# Altium footprint library STM32F103Mini.PcbLib: 19 footprints (part 1 of 2)
Each footprint in its own frame and in the unit in brackets; x right, y up, seen from the top. Pads: shape width x height; smd on the part's side, far side on the other; paste and mask are expansions set on the pad; w line width, h text height; cw(c..) or ccw(c..) is an arc to the next point about the centre after c.
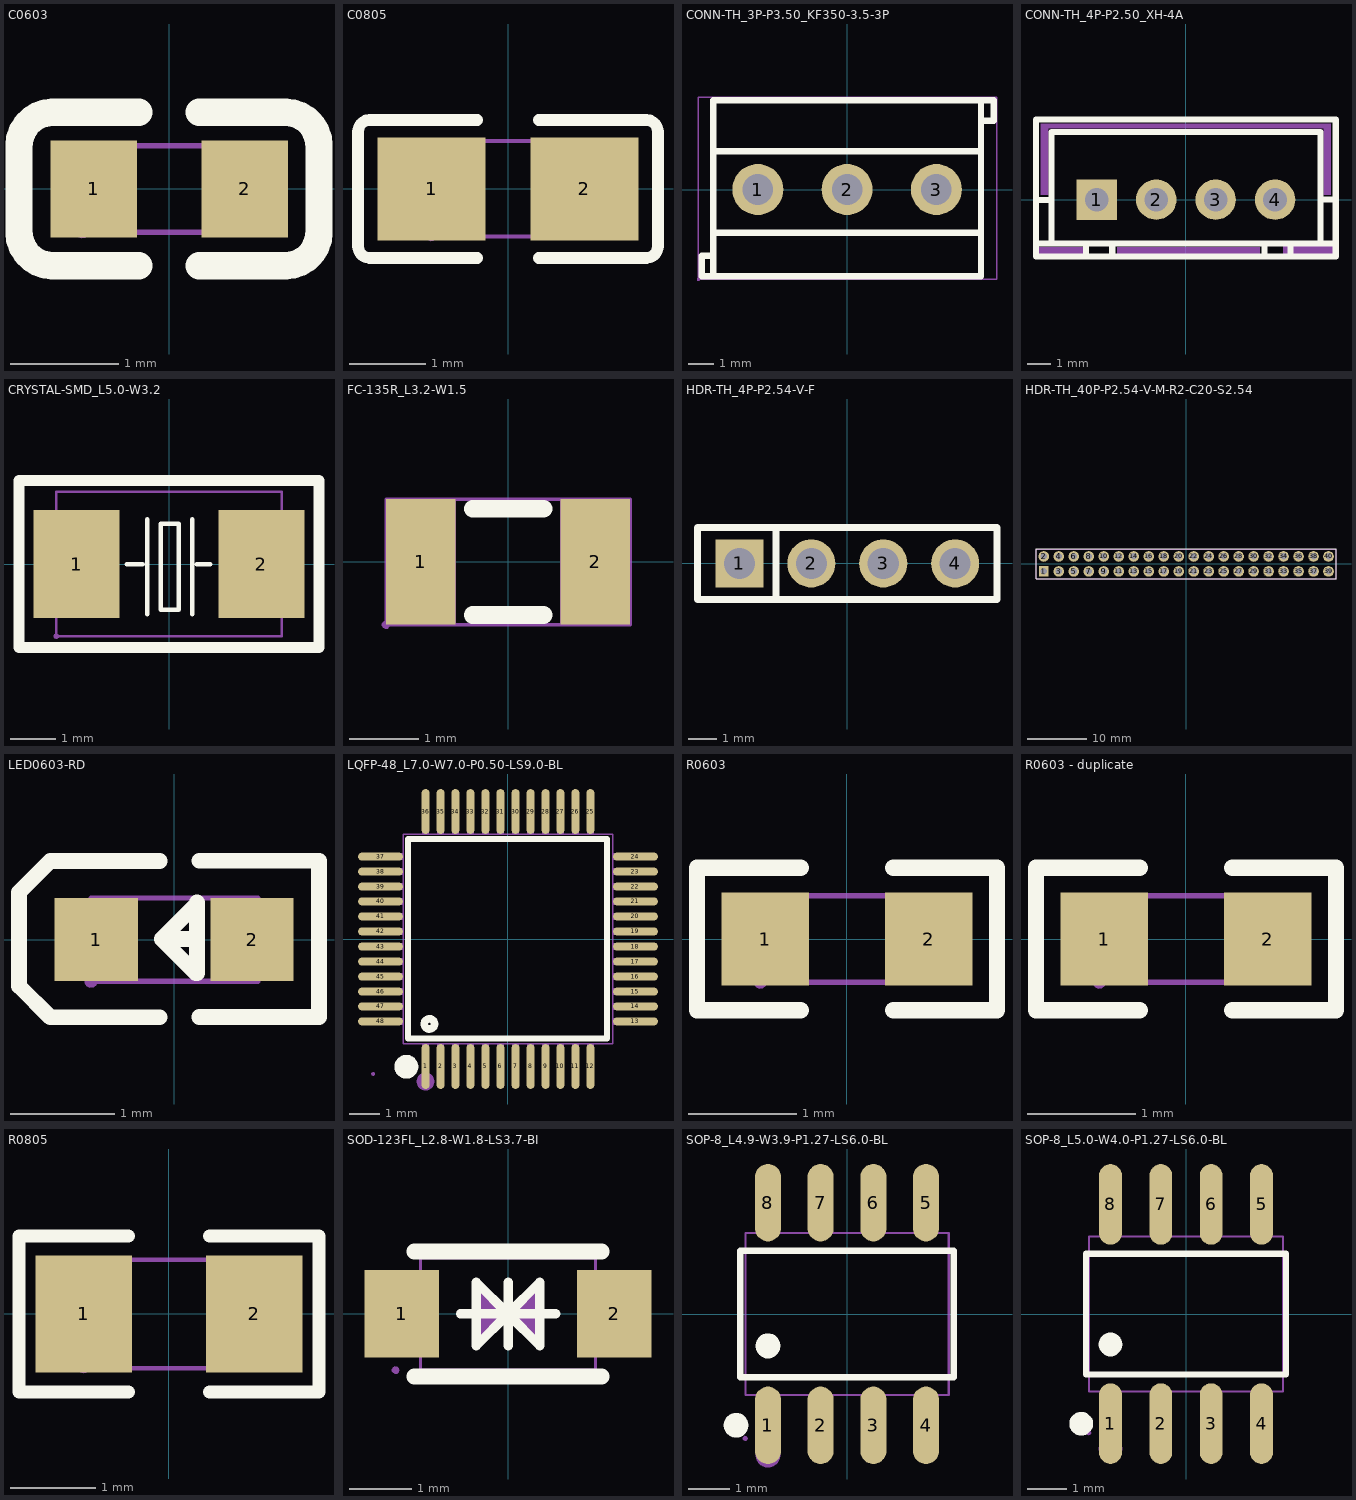
[diagram p0: the footprints below, top view; thin cyan lines are the x and y axes]

## C0603 [mil]
pads (2):
  rect 31.5x35.4 smd: 1(-27.5,0) 2(27.6,0)
Top Overlay:
  lines w10: -11,-28 -42.5,-28 -45.2,-27.7 -47.8,-26.8 -50.1,-25.3 -52,-23.4 -53.5,-21.1 -54.4,-18.5 -54.7,-15.8 -54.7,15.7 -54.4,18.4 -53.5,21 -52,23.3 -50.1,25.2 -47.8,26.7 -45.2,27.6 -42.5,27.9 -11,27.9 ; 11.1,-28 42.6,-28 ; 11.1,27.9 42.6,27.9 ; 42.5,-28 45.3,-27.7 47.8,-26.8 50.2,-25.3 52.1,-23.4 53.5,-21.1 54.4,-18.5 54.7,-15.8 54.7,15.7 54.4,18.4 53.5,21 52.1,23.3 50.2,25.2 47.8,26.7 45.3,27.6 42.5,27.9
Mechanical 6:
  lines w2: -31.5,-15.8 31.5,-15.8 31.5,15.7 -31.5,15.7 -31.5,-15.8
Mechanical 8:
  region: -29.1,-15.8 -29.5,-17.1 -30.5,-17.9 -31.8,-18.1 -33,-17.6 -33.7,-16.5 -33.7,-15.1 -33,-14 -31.8,-13.5 -30.5,-13.6 -29.5,-14.5
Mechanical 9:
  region: 31.5,-15.8 31.5,15.7 19.7,15.7 19.7,-15.8
  region: -31.5,-15.8 -31.5,15.7 -19.7,15.7 -19.7,-15.8

## C0805 [mil]
pads (2):
  rect 55.5x53.1 smd paste-3937 mask+2: 1(-39.4,0) 2(39.4,0)
Top Overlay:
  lines w6: -15.8,-35.6 -71.3,-35.6 -73.2,-35.3 -74.8,-34.5 -76.2,-33.1 -77,-31.5 -77.3,-29.6 -77.3,29.5 -77,31.4 -76.2,33.1 -74.8,34.4 -73.2,35.3 -71.3,35.5 -15.8,35.5 ; 15.8,-35.6 71.3,-35.6 73.2,-35.3 74.8,-34.5 76.2,-33.1 77,-31.5 77.3,-29.6 77.3,29.5 77,31.4 76.2,33.1 74.8,34.4 73.2,35.3 71.3,35.5 15.8,35.5
Top Paste:
  region: 67.1,25.2 67.1,-25.2 65.2,-27.2 19.9,-27.2 17.9,-25.2 17.7,-9.1 35.4,-9.1 35.4,8.6 18.1,8.6 17.9,25.2 19.9,27.1 65.2,27.1
  region: -67.1,-25.2 -67.1,25.2 -65.1,27.1 -19.9,27.1 -17.9,25.2 -17.7,9 -35.4,9 -35.4,-8.7 -18.1,-8.7 -17.9,-25.2 -19.9,-27.2 -65.1,-27.2
Mechanical 6:
  lines w2: -39.4,-24.6 39.4,-24.6 39.4,24.6 -39.4,24.6 -39.4,-24.6
Mechanical 8:
  region: -37,-24.6 -37.4,-25.9 -38.4,-26.8 -39.7,-27 -40.9,-26.4 -41.6,-25.3 -41.6,-24 -40.9,-22.9 -39.7,-22.3 -38.4,-22.5 -37.4,-23.4
Mechanical 9:
  region: 39.4,24.6 39.4,-24.6 19.7,-24.6 19.7,24.6
  region: -39.4,-24.6 -39.4,24.6 -19.7,24.6 -19.7,-24.6

## CONN-TH_3P-P3.50_KF350-3.5-3P [mil]
pads (3):
  round 78.7 hole 47.2: 1(-137.8,0) 2(0,0) 3(137.8,0)
Top Overlay:
  lines w10: -206.7,-102.3 -224.4,-102.3 -224.4,-133.8 -206.7,-133.8 ; -206.7,-66.6 206.7,-66.6 ; -206.7,59.3 206.7,59.3 ; 208.6,106.3 226.4,106.3 226.4,137.8 208.6,137.8 ; -206.7,-133.8 -206.7,137.8 206.7,137.8 206.7,-133.8 -206.7,-133.8
Mechanical 6:
  lines w2: -229.4,-138.8 231.4,-138.8 231.4,142.8 -229.4,142.8 -229.4,-138.8
Mechanical 8:
  region: -227.1,-138.8 -227.5,-140.1 -228.5,-141 -229.8,-141.2 -231,-140.6 -231.7,-139.5 -231.7,-138.2 -231,-137.1 -229.8,-136.5 -228.5,-136.7 -227.5,-137.6
Mechanical 9:
  region: -118.1,0 -118.5,-3.8 -119.6,-7.5 -121.5,-10.9 -123.9,-13.9 -126.9,-16.3 -130.3,-18.2 -134,-19.3 -137.8,-19.7 -141.7,-19.3 -145.4,-18.2 -148.8,-16.3 -151.7,-13.9 -154.2,-10.9 -156,-7.5 -157.1,-3.8 -157.5,0 -157.1,3.9 -156,7.6 -154.2,11 -151.7,13.9 -148.8,16.4 -145.4,18.2 -141.7,19.3 -137.8,19.7 -134,19.3 -130.3,18.2 -126.9,16.4 -123.9,13.9 -121.5,11 -119.6,7.6 -118.5,3.9
  region: 19.7,0 19.3,-3.8 18.2,-7.5 16.3,-10.9 13.9,-13.9 10.9,-16.3 7.5,-18.2 3.8,-19.3 0,-19.7 -3.9,-19.3 -7.6,-18.2 -11,-16.3 -13.9,-13.9 -16.4,-10.9 -18.2,-7.5 -19.3,-3.8 -19.7,0 -19.3,3.9 -18.2,7.6 -16.4,11 -13.9,13.9 -11,16.4 -7.6,18.2 -3.9,19.3 0,19.7 3.8,19.3 7.5,18.2 10.9,16.4 13.9,13.9 16.3,11 18.2,7.6 19.3,3.9
  region: 157.5,0 157.1,-3.8 156,-7.5 154.1,-10.9 151.7,-13.9 148.7,-16.3 145.3,-18.2 141.6,-19.3 137.8,-19.7 133.9,-19.3 130.2,-18.2 126.8,-16.3 123.9,-13.9 121.4,-10.9 119.6,-7.5 118.5,-3.8 118.1,0 118.5,3.9 119.6,7.6 121.4,11 123.9,13.9 126.8,16.4 130.2,18.2 133.9,19.3 137.8,19.7 141.6,19.3 145.3,18.2 148.7,16.4 151.7,13.9 154.1,11 156,7.6 157.1,3.9

## CONN-TH_4P-P2.50_XH-4A [mil]
pads (4):
  rect 66.9x66.9 hole 39.4: 1(-147.6,0)
  round 66.9 hole 39.4: 2(-49.2,0) 3(49.2,0) 4(147.7,0)
Top Overlay:
  lines w10: -248,-71.5 -246.6,-72.8 -236.6,-72.8 -224.4,-72.8 ; -248,-0.3 -224.4,-0.3 ; -165.3,-94.5 -165.3,-74.8 ; -122,-94.5 -122,-74.8 ; 130,-94.5 130,-74.8 ; 173.3,-94.5 173.3,-74.8 ; 224.4,0 248.1,0 ; 224.9,-71.5 226.2,-72.8 248.5,-72.8 ; -248,-94.5 248.1,-94.5 248.1,133 -242.6,133 -248,133 -248,-94.5 ; -222.4,-72.8 -222.4,112.2 222.5,112.2 222.5,-72.8 -222.4,-72.8
Mechanical 2:
  region: 161.1,-75.4 243.8,-75.4 243.8,-91.2 161.1,-91.2
  region: -248,-78.7 -165.3,-78.7 -165.3,-94.5 -248,-94.5
  region: -114.1,-78.7 122.1,-78.7 122.1,-94.5 -114.1,-94.5
  region: -240.1,7.9 -228.3,7.9 -228.3,118.1 228.4,118.1 228.4,7.9 240.2,7.9 240.2,126 -240.1,126
Mechanical 6:
  lines w2: -246,-95.3 246.1,-95.3 246.1,133 -246,133 -246,-95.3
Mechanical 8:
  region: -243.7,-95.3 -244.1,-96.6 -245.1,-97.5 -246.4,-97.7 -247.6,-97.1 -248.3,-96 -248.3,-94.7 -247.6,-93.6 -246.4,-93 -245.1,-93.2 -244.1,-94.1
Mechanical 9:
  region: -160.2,12.6 -135,12.6 -135,-12.6 -160.2,-12.6
  region: -61.8,12.6 -36.6,12.6 -36.6,-12.6 -61.8,-12.6
  region: 36.6,12.6 61.8,12.6 61.8,-12.6 36.6,-12.6
  region: 135.1,12.6 160.3,12.6 160.3,-12.6 135.1,-12.6

## CRYSTAL-SMD_L5.0-W3.2 [mil]
pads (2):
  rect 74.8x94.5 smd: 1(-80.7,0) 2(80.7,0)
Top Overlay:
  lines w3.9: -37,0 -23,0 ; -19,-43.6 -19,39 ; 20.4,-43.6 20.4,39 ; 24.3,-0.3 36.1,-0.3 ; -7.2,-39.7 8.6,-39.7 8.6,35.1 -7.2,35.1 -7.2,-39.7
  lines w10: -130.9,-72.8 -130.9,-27.5 -130.9,27.6 -130.9,72.9 130.9,72.9 130.9,27.6 130.9,-27.5 130.9,-72.8 -130.9,-72.8
Mechanical 6:
  lines w2: -98.4,-63 98.4,-63 98.4,63 -98.4,63 -98.4,-63
Mechanical 8:
  region: -96.1,-62.9 -96.4,-64.2 -97.4,-65.1 -98.8,-65.3 -100,-64.7 -100.7,-63.6 -100.7,-62.3 -100,-61.2 -98.8,-60.6 -97.4,-60.8 -96.4,-61.7
Mechanical 9:
  region: 51.2,39.4 94.5,39.4 94.5,-39.3 51.2,-39.3
  region: -94.5,39.4 -51.2,39.4 -51.2,-39.3 -94.5,-39.3

## FC-135R_L3.2-W1.5 [mil]
pads (2):
  rect 39.4x70.9 smd: 1(-49.3,0) 2(49.2,0)
Top Overlay:
  lines w10: -20,-30 20,-30 ; -20,30 20,30
Mechanical 6:
  lines w2: -68.9,-35.4 68.9,-35.4 68.9,35.4 -68.9,35.4 -68.9,-35.4
Mechanical 8:
  region: -66.6,-35.4 -67,-36.7 -68,-37.6 -69.3,-37.8 -70.5,-37.2 -71.2,-36.1 -71.2,-34.8 -70.5,-33.7 -69.3,-33.1 -68,-33.3 -67,-34.2
Mechanical 9:
  region: -68.9,-35.4 -68.9,35.4 -29.6,35.4 -29.6,-35.4
  region: 29.5,-35.4 29.5,35.4 68.9,35.4 68.9,-35.4

## HDR-TH_4P-P2.54-V-F [mil]
pads (4):
  rect 66.9x66.9 hole 43.3: 1(-150,0)
  round 66.9 hole 43.3: 2(-50,0) 3(50,0) 4(150,0)
Top Overlay:
  lines w10: -99.1,-50 -99.1,50 ; -208.3,-50 -208.3,50 208.2,50 208.2,-50 -208.3,-50
Mechanical 6:
  lines w2: -206.7,-49.2 -206.7,49.2 206.6,49.2 206.6,-49.2 -206.7,-49.2
Mechanical 8:
  region: -204.4,-49.2 -204.8,-50.5 -205.8,-51.4 -207.1,-51.6 -208.3,-51 -209,-49.9 -209,-48.6 -208.3,-47.5 -207.1,-46.9 -205.8,-47.1 -204.8,-48
Mechanical 9:
  region: -162.6,5.9 -137.5,5.9 -137.5,-5.9 -162.6,-5.9
  region: -62.6,5.9 -37.5,5.9 -37.5,-5.9 -62.6,-5.9
  region: 37.4,5.9 62.5,5.9 62.5,-5.9 37.4,-5.9
  region: 137.4,5.9 162.5,5.9 162.5,-5.9 137.4,-5.9

## HDR-TH_40P-P2.54-V-M-R2-C20-S2.54 [mil]
pads (40):
  rect 62x70.9 hole 43.3: 1(-950,-50)
  round 70.9 hole 43.3: 2(-950,50) 3(-850,-50) 4(-850,50) 5(-750,-50) 6(-750,50) 7(-650,-50) 8(-650,50) 9(-550,-50) 10(-550,50) 11(-450,-50) 12(-450,50) 13(-350,-50) 14(-350,50) 15(-250,-50) 16(-250,50) 17(-150,-50) 18(-150,50) 19(-50,-50) 20(-50,50) 21(50,-50) 22(50,50) 23(150,-50) 24(150,50) 25(250,-50) 26(250,50) 27(350,-50) 28(350,50) 29(450,-50) 30(450,50) 31(550,-50) 32(550,50) 33(650,-50) 34(650,50) 35(750,-50) 36(750,50) 37(850,-50) 38(850,50) 39(950,-50) 40(950,50)
Top Overlay:
  lines w8: -1000,-100 1000,-100 1000,100 -1000,100 -1000,-100
Mechanical 6:
  lines w2: -1000,-98.4 -1000,98.4 1000,98.4 1000,-98.4 -1000,-98.4
Mechanical 8:
  region: -997.7,-98.4 -998.1,-99.7 -999.1,-100.6 -1000.4,-100.8 -1001.6,-100.2 -1002.3,-99.1 -1002.3,-97.8 -1001.6,-96.7 -1000.4,-96.1 -999.1,-96.3 -998.1,-97.2
Mechanical 9:
  drawing of 40 lines, arcs and shapes, not listed

## LED0603-RD [mil]
pads (2):
  rect 31.5x31.5 smd: 1(-29.4,0) 2(29.5,0)
Top Overlay:
  lines w5.9: -5.4,-29.4 -46.8,-29.4 -58.6,-17.6 -58.6,-13.6 -58.6,13.9 -58.6,17.9 -46.8,29.7 -5.4,29.7 ; 8.7,0.2 -4.7,0.2 ; 9.5,-29.3 54.8,-29.3 ; 9.5,29.8 54.8,29.8 ; 54.8,-28.5 54.8,29.7 ; -4.7,0.2 8.7,13.6 8.7,14 8.7,-12.8 8.3,-12.8 -4.7,0.2
Mechanical 2:
  region: 20.9,2.7 42.1,2.7 42.1,-2.5 20.9,-2.5
  region: 29,-10.6 29,10.7 34.1,10.7 34.1,-10.6
  region: -42.1,2.4 -20.8,2.4 -20.8,-2.7 -42.1,-2.7
Mechanical 6:
  lines w2: -31.4,-15.8 31.6,-15.8 31.6,15.7 -31.4,15.7 -31.4,-15.8
Mechanical 8:
  region: -29.1,-15.9 -29.4,-17.2 -30.4,-18.1 -31.8,-18.3 -33,-17.7 -33.7,-16.6 -33.7,-15.3 -33,-14.1 -31.8,-13.6 -30.4,-13.8 -29.4,-14.6
Mechanical 9:
  region: 19.7,-15.6 19.7,15.9 31.6,15.9 31.6,-15.6
  region: -31.4,-15.9 -31.4,15.6 -19.6,15.6 -19.6,-15.9

## LQFP-48_L7.0-W7.0-P0.50-LS9.0-BL [mil]
pads (48):
  oval 10.6x59.1 smd paste+0 mask+2: 1(-108.2,-167.3) 2(-88.5,-167.3) 3(-68.9,-167.3) 4(-49.2,-167.3) 5(-29.5,-167.3) 6(-9.8,-167.3) 7(9.9,-167.3) 8(29.6,-167.3) 9(49.3,-167.3) 10(68.9,-167.3) 11(88.6,-167.3) 12(108.3,-167.3) 25(108.3,167.4) 26(88.6,167.4) 27(68.9,167.4) 28(49.3,167.4) 29(29.6,167.4) 30(9.9,167.4) 31(-9.8,167.4) 32(-29.5,167.4) 33(-49.2,167.4) 34(-68.9,167.4) 35(-88.5,167.4) 36(-108.2,167.4)
  oval 59.1x10.6 smd paste+0 mask+2: 13(167.4,-108.2) 14(167.4,-88.5) 15(167.4,-68.9) 16(167.4,-49.2) 17(167.4,-29.5) 18(167.4,-9.8) 19(167.4,9.9) 20(167.4,29.6) 21(167.4,49.3) 22(167.4,68.9) 23(167.4,88.6) 24(167.4,108.3) 37(-167.3,108.3) 38(-167.3,88.6) 39(-167.3,68.9) 40(-167.3,49.3) 41(-167.3,29.6) 42(-167.3,9.9) 43(-167.3,-9.8) 44(-167.3,-29.5) 45(-167.3,-49.2) 46(-167.3,-68.9) 47(-167.3,-88.5) 48(-167.3,-108.2)
Top Overlay:
  lines w7.9: -114,131.5 130,131.5 130,-130.5 -131,-130.5 -131,131.5 -101,131.5
  lines w10: -109.7,-112.5 -109.7,-110.3 -109,-108.2 -107.6,-106.4 -105.8,-105.2 -103.7,-104.7 -101.5,-104.9 -99.4,-105.8 -97.8,-107.3 -96.8,-109.2 -96.4,-111.4 -96.8,-113.6 -97.8,-115.5 -99.4,-117 -101.5,-117.9 -103.7,-118.1 -105.8,-117.5 -107.6,-116.3 -109,-114.6 -109.7,-112.5
  lines w15.7: -133.4,-159.8 -135.8,-160.2 -138,-161.3 -139.8,-163.1 -140.9,-165.3 -141.2,-167.7 -140.8,-170.1 -139.7,-172.3 -138,-174 -135.8,-175.2 -133.4,-175.5 -130.9,-175.2 -128.7,-174 -127,-172.3 -125.9,-170.1 -125.5,-167.7 -125.9,-165.3 -127,-163.1 -128.7,-161.3 -130.9,-160.2 -133.3,-159.8
Mechanical 2:
  lines w11.8: -114.1,-187 -113.8,-184.9 -112.7,-183.2 -111.2,-181.8 -109.2,-181.1 -107.2,-181.1 -105.3,-181.8 -103.7,-183.2 -102.7,-184.9 -102.3,-187 -102.7,-189 -103.7,-190.8 -105.3,-192.1 -107.2,-192.8 -109.2,-192.8 -111.2,-192.1 -112.7,-190.8 -113.8,-189 -114.1,-187
Mechanical 6:
  lines w2: -137.7,-137.7 -137.7,137.8 137.8,137.8 137.8,-137.7 -137.7,-137.7
Mechanical 7:
  drawing of 48 lines, arcs and shapes, not listed
Mechanical 8:
  region: -174.8,-177.1 -175.1,-178.4 -176.1,-179.3 -177.5,-179.5 -178.7,-178.9 -179.4,-177.8 -179.4,-176.5 -178.7,-175.3 -177.5,-174.8 -176.1,-175 -175.1,-175.8
Mechanical 9:
  drawing of 48 lines, arcs and shapes, not listed

## R0603 [mil]
pads (2):
  rect 31.8x34 smd paste-3937 mask+2: 1(-29.6,0) 2(29.7,0)
Top Overlay:
  lines w6: -16.7,-26 -54.5,-26 -54.5,26 -16.7,26 ; 16.8,-26 54.6,-26 54.6,26 16.8,26
Top Paste:
  region: 47.1,17.7 15.6,17.7 13.6,15.8 13.6,6.8 28.2,6.8 28.2,-6.2 13.6,-6.2 13.6,-15.7 15.6,-17.7 47.1,-17.7 49,-15.7 49,15.8
  region: -47,-17.7 -15.5,-17.7 -13.6,-15.7 -13.6,-6.8 -28.1,-6.8 -28.1,6.2 -13.6,6.2 -13.6,15.8 -15.5,17.7 -47,17.7 -49,15.8 -49,-15.7
Mechanical 6:
  lines w2: -31.5,-15.7 -31.5,15.8 31.5,15.8 31.5,-15.7 -31.5,-15.7
Mechanical 8:
  region: -29.1,-15.7 -29.5,-17 -30.5,-17.9 -31.8,-18.1 -33,-17.5 -33.7,-16.4 -33.7,-15.1 -33,-14 -31.8,-13.4 -30.5,-13.6 -29.5,-14.5
Mechanical 9:
  region: -31.5,-15.7 -31.5,15.8 -19.7,15.8 -19.7,-15.7
  region: 31.5,-15.7 31.5,15.8 19.7,15.8 19.7,-15.7

## R0603 - duplicate [mil]
pads (2):
  rect 31.8x34 smd paste-3937 mask+2: 1(-29.6,0) 2(29.7,0)
Top Overlay:
  lines w6: -16.7,-26 -54.5,-26 -54.5,26 -16.7,26 ; 16.8,-26 54.6,-26 54.6,26 16.8,26
Top Paste:
  region: -47,-17.7 -15.5,-17.7 -13.6,-15.7 -13.6,-6.8 -28.1,-6.8 -28.1,6.2 -13.6,6.2 -13.6,15.8 -15.5,17.7 -47,17.7 -49,15.8 -49,-15.7
  region: 47.1,17.7 15.6,17.7 13.6,15.8 13.6,6.8 28.2,6.8 28.2,-6.2 13.6,-6.2 13.6,-15.7 15.6,-17.7 47.1,-17.7 49,-15.7 49,15.8
Mechanical 6:
  lines w2: -31.5,-15.7 31.5,-15.7 31.5,15.8 -31.5,15.8 -31.5,-15.7
Mechanical 8:
  region: -29.1,-15.7 -29.5,-17 -30.5,-17.9 -31.8,-18.1 -33,-17.5 -33.7,-16.4 -33.7,-15.1 -33,-14 -31.8,-13.4 -30.5,-13.6 -29.5,-14.5
Mechanical 9:
  region: 31.5,-15.7 31.5,15.8 19.7,15.8 19.7,-15.7
  region: -31.5,-15.7 -31.5,15.8 -19.7,15.8 -19.7,-15.7

## R0805 [mil]
pads (2):
  rect 44.6x54.2 smd paste-3937 mask+2: 1(-39.3,0) 2(39.4,0)
Top Overlay:
  lines w6: -18.7,-36.1 -69.3,-36.1 -69.3,36.1 -18.7,36.1 ; 18.8,-36.1 69.4,-36.1 69.4,36.1 18.8,36.1
Top Paste:
  region: 17.8,-25.2 17.8,-8.7 35.3,-8.7 35.3,9.1 18,9.1 17.8,25.2 19.7,27.2 65,27.2 67,25.2 67,-25.2 65,-27.2 19.7,-27.2
  region: -66.9,-25.2 -66.9,25.2 -64.9,27.2 -19.6,27.2 -17.7,25.2 -17.5,9.1 -35.2,9.1 -35.2,-8.7 -17.9,-8.7 -17.7,-25.2 -19.6,-27.2 -64.9,-27.2
Mechanical 6:
  lines w2: -39.3,-25.1 39.4,-25.1 39.4,25.1 -39.3,25.1 -39.3,-25.1
Mechanical 8:
  region: -37,-25.1 -37.3,-26.4 -38.4,-27.2 -39.7,-27.4 -40.9,-26.9 -41.6,-25.8 -41.6,-24.4 -40.9,-23.3 -39.7,-22.8 -38.4,-22.9 -37.3,-23.8
Mechanical 9:
  region: 39.4,-25.1 39.4,25.1 23.7,25.1 23.7,-25.1
  region: -39.3,-25.1 -39.3,25.1 -23.6,25.1 -23.6,-25.1

## SOD-123FL_L2.8-W1.8-LS3.7-BI [mil]
pads (2):
  rect 47.2x55.1 smd: 1(-67,0) 2(66.9,0)
Top Overlay:
  lines w5.9: -30,0 30,0 ; 0,-20 0,20 ; 0,-10 0,10 ; 0,0 20,20 20,-20 0,0 ; 0,0 -20,-20 -20,20 0,0
  lines w10: -59.1,-39.4 59,-39.4 ; -59.1,39.3 59,39.3
Mechanical 2:
  region: -19.7,19.7 -19.7,-19.7 0,0
  region: 19.6,-19.7 19.6,19.7 0,0
Mechanical 6:
  lines w2: -55.2,-35.5 55.1,-35.5 55.1,35.4 -55.2,35.4 -55.2,-35.5
Mechanical 8:
  region: -68.6,-35.5 -68.9,-36.7 -69.9,-37.6 -71.3,-37.8 -72.5,-37.2 -73.2,-36.1 -73.2,-34.8 -72.5,-33.7 -71.3,-33.1 -69.9,-33.3 -68.9,-34.2
Mechanical 9:
  region: -70.9,19.7 -50.2,19.7 -50.2,-19.7 -70.9,-19.7
  region: 50.2,19.7 70.8,19.7 70.8,-19.7 50.2,-19.7

## SOP-8_L4.9-W3.9-P1.27-LS6.0-BL [mil]
pads (8):
  oval 24.8x73.4 smd: 1(-75,-105.6) 2(-25,-105.6) 3(25,-105.6) 4(75,-105.6) 5(75,105.6) 6(25,105.6) 7(-25,105.6) 8(-75,105.6)
Top Overlay:
  lines w6: -101.4,-59.9 -101.4,59.9 101.4,59.9 101.4,-59.9 -101.4,-59.9
  lines w11.8: -111.1,-105.6 -110.7,-107.6 -109.7,-109.4 -108.1,-110.7 -106.2,-111.4 -104.2,-111.4 -102.2,-110.7 -100.7,-109.4 -99.6,-107.6 -99.3,-105.6 -99.6,-103.6 -100.7,-101.8 -102.2,-100.5 -104.2,-99.8 -106.2,-99.8 -108.1,-100.5 -109.7,-101.8 -110.7,-103.6 -111.1,-105.6 ; -80.9,-30.3 -80.5,-32.3 -79.5,-34.1 -77.9,-35.4 -76,-36.1 -74,-36.1 -72,-35.4 -70.5,-34.1 -69.4,-32.3 -69.1,-30.3 -69.4,-28.2 -70.5,-26.5 -72,-25.1 -74,-24.4 -76,-24.4 -77.9,-25.1 -79.5,-26.5 -80.5,-28.2 -80.9,-30.3
Mechanical 2:
  lines w11.8: -80.9,-133.8 -80.5,-135.9 -79.5,-137.6 -77.9,-139 -76,-139.7 -74,-139.7 -72,-139 -70.5,-137.6 -69.4,-135.9 -69.1,-133.8 -69.4,-131.8 -70.5,-130 -72,-128.7 -74,-128 -76,-128 -77.9,-128.7 -79.5,-130 -80.5,-131.8 -80.9,-133.8
Mechanical 6:
  lines w2: -96.4,-76.7 -96.4,76.8 96.5,76.8 96.5,-76.7 -96.4,-76.7
Mechanical 7:
  region: 66.6,76.4 66.6,92.9 83.5,92.9 83.5,76.4
  region: 16.6,76.4 16.6,92.9 33.5,92.9 33.5,76.4
  region: -33.4,76.4 -33.4,92.9 -16.5,92.9 -16.5,76.4
  region: -83.4,76.4 -83.4,92.9 -66.5,92.9 -66.5,76.4
  region: 66.6,-92.9 66.6,-76.4 83.5,-76.4 83.5,-92.9
  region: 16.6,-92.9 16.6,-76.4 33.5,-76.4 33.5,-92.9
  region: -33.4,-92.9 -33.4,-76.4 -16.5,-76.4 -16.5,-92.9
  region: -83.4,-92.9 -83.4,-76.4 -66.5,-76.4 -66.5,-92.9
Mechanical 8:
  region: -94.1,-118.1 -94.4,-119.4 -95.5,-120.2 -96.8,-120.4 -98,-119.9 -98.7,-118.7 -98.7,-117.4 -98,-116.3 -96.8,-115.7 -95.5,-115.9 -94.4,-116.8
Mechanical 9:
  region: 66.6,92.5 66.6,118.1 83.5,118.1 83.5,92.5
  region: 16.6,92.5 16.6,118.1 33.5,118.1 33.5,92.5
  region: -33.4,92.5 -33.4,118.1 -16.5,118.1 -16.5,92.5
  region: -83.4,92.5 -83.4,118.1 -66.5,118.1 -66.5,92.5
  region: 66.6,-118.1 66.6,-92.5 83.5,-92.5 83.5,-118.1
  region: 16.6,-118.1 16.6,-92.5 33.5,-92.5 33.5,-118.1
  region: -33.4,-118.1 -33.4,-92.5 -16.5,-92.5 -16.5,-118.1
  region: -83.4,-118.1 -83.4,-92.5 -66.5,-92.5 -66.5,-118.1

## SOP-8_L5.0-W4.0-P1.27-LS6.0-BL [mil]
pads (8):
  oval 22.6x80.1 smd: 1(-75,-108.9) 2(-25,-108.9) 3(25,-108.9) 4(75,-108.9) 5(75,109) 6(25,109) 7(-25,109) 8(-75,109)
Top Overlay:
  lines w6: -99.4,-59.9 -99.4,59.9 99.5,59.9 99.5,-59.9 -99.4,-59.9
  lines w11.8: -110,-108.9 -109.6,-111 -108.6,-112.7 -107,-114 -105.1,-114.8 -103.1,-114.8 -101.1,-114 -99.6,-112.7 -98.5,-111 -98.2,-108.9 -98.5,-106.9 -99.6,-105.1 -101.1,-103.8 -103.1,-103.1 -105.1,-103.1 -107,-103.8 -108.6,-105.1 -109.6,-106.9 -110,-108.9 ; -80.9,-30.2 -80.5,-32.3 -79.5,-34 -77.9,-35.4 -76,-36.1 -74,-36.1 -72,-35.4 -70.5,-34 -69.4,-32.3 -69.1,-30.2 -69.4,-28.2 -70.5,-26.4 -72,-25.1 -74,-24.4 -76,-24.4 -77.9,-25.1 -79.5,-26.4 -80.5,-28.2 -80.9,-30.2
Mechanical 2:
  lines w11.8: -80.9,-133.7 -80.5,-135.7 -79.5,-137.5 -77.9,-138.8 -76,-139.5 -74,-139.5 -72,-138.8 -70.5,-137.5 -69.4,-135.7 -69.1,-133.7 -69.4,-131.7 -70.5,-129.9 -72,-128.6 -74,-127.9 -76,-127.9 -77.9,-128.6 -79.5,-129.9 -80.5,-131.7 -80.9,-133.7
Mechanical 6:
  lines w2: -96.4,-76.7 -96.4,76.8 96.5,76.8 96.5,-76.7 -96.4,-76.7
Mechanical 7:
  region: -83.1,-85.5 -83.1,-76.3 -66.9,-76.3 -66.9,-85.5
  region: -33.1,-85.5 -33.1,-76.3 -16.9,-76.3 -16.9,-85.5
  region: 16.9,-85.5 16.9,-76.3 33.1,-76.3 33.1,-85.5
  region: 66.9,-85.5 66.9,-76.3 83.1,-76.3 83.1,-85.5
  region: -83.1,85.6 -83.1,76.4 -66.9,76.4 -66.9,85.6
  region: -33.1,85.6 -33.1,76.4 -16.9,76.4 -16.9,85.6
  region: 16.9,85.6 16.9,76.4 33.1,76.4 33.1,85.6
  region: 66.9,85.6 66.9,76.4 83.1,76.4 83.1,85.6
Mechanical 8:
  region: -94.1,-118 -94.5,-119.2 -95.5,-120.1 -96.8,-120.3 -98,-119.8 -98.7,-118.6 -98.7,-117.3 -98,-116.2 -96.8,-115.6 -95.5,-115.8 -94.5,-116.7
Mechanical 9:
  region: -83.1,-118 -83.1,-85.1 -66.9,-85.1 -66.9,-118
  region: -33.1,-118 -33.1,-85.1 -16.9,-85.1 -16.9,-118
  region: 16.9,-118 16.9,-85.1 33.1,-85.1 33.1,-118
  region: 66.9,-118 66.9,-85.1 83.1,-85.1 83.1,-118
  region: -83.1,118.1 -83.1,85.2 -66.9,85.2 -66.9,118.1
  region: -33.1,118.1 -33.1,85.2 -16.9,85.2 -16.9,118.1
  region: 16.9,118.1 16.9,85.2 33.1,85.2 33.1,118.1
  region: 66.9,118.1 66.9,85.2 83.1,85.2 83.1,118.1